# EAGLE library part ADG3304 (library rpibout)
ADG3304 Analog Devices Bidirectional Voltage Level Translator
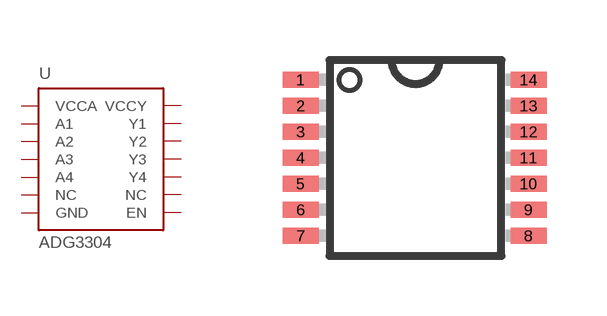
[diagram p5: symbol with the pads of TSSOP14; footprint TSSOP14]

Designator prefix U

## ADG3304  [TSSOP14]
1  VCCA  pwr
2  A1
3  A2
4  A3
5  A4
6  NC  nc
7  GND  pwr
8  EN  in
9  NC  nc
10  Y4
11  Y3
12  Y2
13  Y1
14  VCCY  pwr

## Footprint TSSOP14 (pad centres in mm)
TSSOP14
smd 0.9 x 0.4: 1 -2.875,1.95; 2 -2.875,1.3; 3 -2.875,0.65; 4 -2.875,0; 5 -2.875,-0.65; 6 -2.875,-1.3; 7 -2.875,-1.95; 8 2.825,-1.95; 9 2.825,-1.3; 10 2.825,-0.65; 11 2.825,0; 12 2.825,0.65; 13 2.825,1.3; 14 2.825,1.95